# EAGLE library part 171-037-213R001 (library D-Sub Connectors)
CONN D-SUB RCPT 37P PNL MNT SLDR Manufacturer's datasheet <https://www.norcomp.net/rohspdfs/Connectors/17Y/171/171-YYY-213RYY1.pdf>
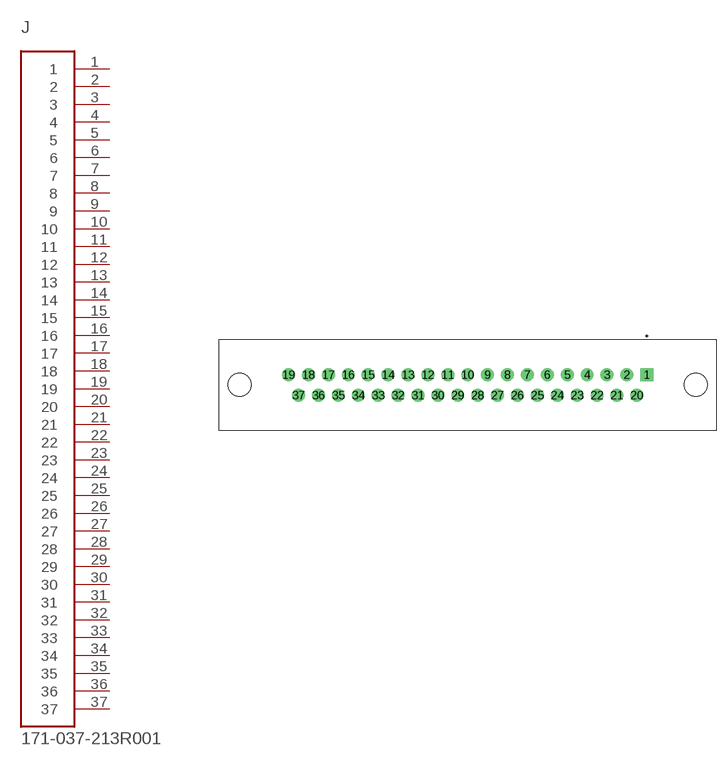
[diagram p15: symbol with the pads of 171-037-213R001; footprint 171-037-213R001]

Designator prefix J

## 171-037-213R001 (CREATED_BY: PCBLayout.com; DIGIKEY_PART_NUMBER: 4237FE-ND; MANUFACTURER: NorComp Inc.; MPN: 171-037-213R001)  [171-037-213R001]
1  1  pas
2  2  pas
3  3  pas
4  4  pas
5  5  pas
6  6  pas
7  7  pas
8  8  pas
9  9  pas
10  10  pas
11  11  pas
12  12  pas
13  13  pas
14  14  pas
15  15  pas
16  16  pas
17  17  pas
18  18  pas
19  19  pas
20  20  pas
21  21  pas
22  22  pas
23  23  pas
24  24  pas
25  25  pas
26  26  pas
27  27  pas
28  28  pas
29  29  pas
30  30  pas
31  31  pas
32  32  pas
33  33  pas
34  34  pas
35  35  pas
36  36  pas
37  37  pas

## Footprint 171-037-213R001 (pad centres in mm)
drill 1.194 square: 1 24.917,1.422
drill 1.194: 2 22.149,1.422; 3 19.38,1.422; 4 16.612,1.422; 5 13.843,1.422; 6 11.074,1.422; 7 8.306,1.422; 8 5.537,1.422; 9 2.769,1.422; 10 0,1.422; 11 -2.769,1.422; 12 -5.537,1.422; 13 -8.306,1.422; 14 -11.074,1.422; 15 -13.843,1.422; 16 -16.612,1.422; 17 -19.38,1.422; 18 -22.149,1.422; 19 -24.917,1.422; 20 23.533,-1.422; 21 20.765,-1.422; 22 17.996,-1.422; 23 15.227,-1.422; 24 12.459,-1.422; 25 9.69,-1.422; 26 6.921,-1.422; 27 4.153,-1.422; 28 1.384,-1.422; 29 -1.384,-1.422; 30 -4.153,-1.422; 31 -6.921,-1.422; 32 -9.69,-1.422; 33 -12.459,-1.422; 34 -15.227,-1.422; 35 -17.996,-1.422; 36 -20.765,-1.422; 37 -23.533,-1.422
hole 3.2 at -31.75,0
hole 3.2 at 31.75,0